# EAGLE library part SP723ABG (library Littelfuse_By_element14_Batch_1)
TVS Diode Arrays
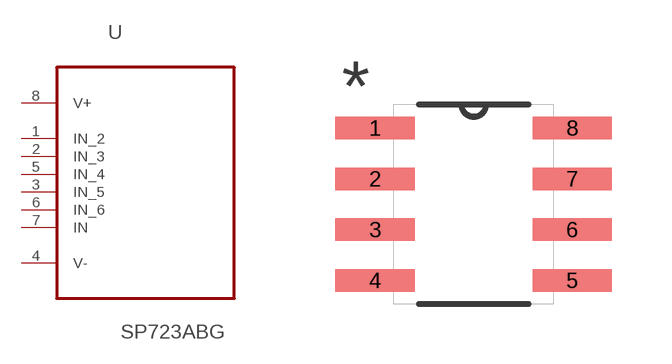
[diagram p3: symbol with the pads of SOIC127P600X175-8N; footprint SOIC127P600X175-8N]

Designator prefix U

## SP723ABG (MPN: SP723ABG; OC_FARNELL: 1827642; OC_NEWARK: 80K9824; PACKAGE: SOIC-8; SUPPLIER: LITTELFUSE)  [SOIC127P600X175-8N]
1  IN_2  in
2  IN_3  in
3  IN_5  in
4  V-  pas
5  IN_4  in
6  IN_6  in
7  IN  in
8  V+  pwr

## Footprint SOIC127P600X175-8N (pad centres in mm)
smd 1.981 x 0.559: 1 -2.464,1.905; 2 -2.464,0.635; 3 -2.464,-0.635; 4 -2.464,-1.905; 5 2.464,-1.905; 6 2.464,-0.635; 7 2.464,0.635; 8 2.464,1.905